# Altium footprint library 农联网.PcbLib: 38 footprints (part 2 of 3)
Each footprint in its own frame and in the unit in brackets; x right, y up, seen from the top. Pads: shape width x height; smd on the part's side, far side on the other; paste and mask are expansions set on the pad; w line width, h text height; cw(c..) or ccw(c..) is an arc to the next point about the centre after c.
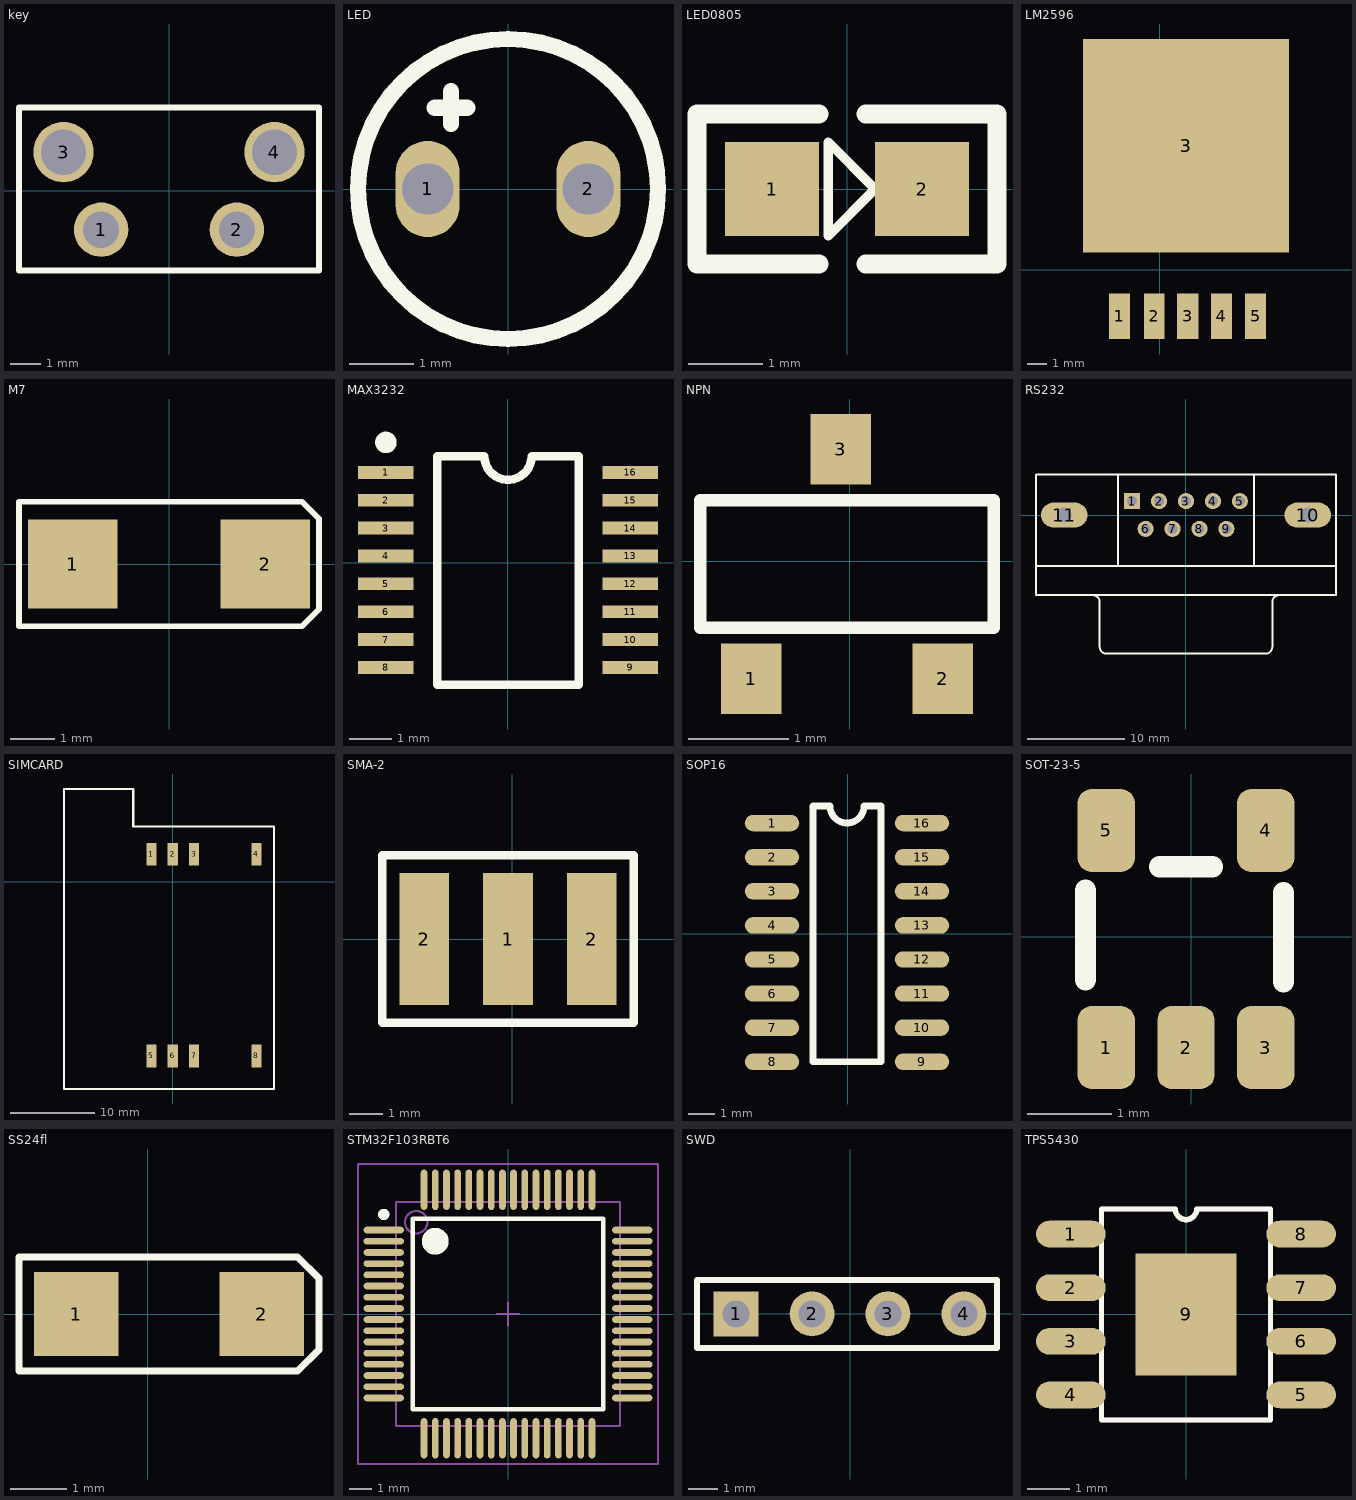
[diagram p1: the footprints below, top view; thin cyan lines are the x and y axes]

## key [mm]
pads (4):
  round 1.8 hole 1.2: 1(-2.248,-1.283) 2(2.248,-1.283)
  round 2 hole 1.5: 3(-3.492,1.283) 4(3.492,1.283)
Top Overlay:
  lines w0.2: -4.966,-2.629 -4.966,2.756 4.966,2.756 4.966,-2.629 -4.966,-2.629

## LED [mm]
pads (2):
  oval 1x1.5 hole 0.8: 1(-1.254,0) 2(1.254,0)
Top Overlay:
  circle w0.254: c0,0 r2.342
  lines w0.254: -1.143,1.27 -0.635,1.27 ; -0.889,1.016 -0.889,1.524

## LED0805 [mil]
pads (2):
  rect 50x50 smd: 1(-40,0) 2(40,0)
Top Overlay:
  lines w5: -10,-25 15,0 -10,25 -10,-25
  lines w10: -15,-40 -80,-40 -80,40 -15,40 ; 10,-40 80,-40 80,40 10,40

## LM2596 [mm]
pads (6):
  rect 1.07x2.3 smd: 1(-2.046,-2.338) 3(1.408,-2.338) 4(3.11,-2.338) 5(4.837,-2.338)
  rect 1.04x2.3 smd: 2(-0.293,-2.338)
  rect 10.42x10.8 smd: 3(1.321,6.274)

## M7 [mm]
pads (2):
  rect 2x2 smd: 1(-2.159,0) 2(2.159,0)
Top Overlay:
  lines w0.127: -3.365,-1.397 2.984,-1.397 3.365,-1.016 3.365,1.016 2.984,1.397 -3.365,1.397 -3.365,-1.397

## MAX3232 [mm]
pads (16):
  rect 1.3x0.3 smd: 1(-2.845,2.108) 2(-2.845,1.458) 3(-2.845,0.808) 4(-2.845,0.158) 5(-2.845,-0.492) 6(-2.845,-1.142) 7(-2.845,-1.792) 8(-2.845,-2.442) 9(2.855,-2.442) 10(2.855,-1.792) 11(2.855,-1.142) 12(2.855,-0.492) 13(2.855,0.158) 14(2.855,0.808) 15(2.855,1.458) 16(2.855,2.108)
Top Overlay:
  circle w0.25: c-2.845,2.808 r0.125
  lines w0.2: -1.645,-2.845 1.655,-2.845 1.655,2.483 0.555,2.483 cw(c0.005,2.483) -0.545,2.483 -1.645,2.483 -1.645,-2.845
3D body: height 1.27, standoff 0, extent -1.773,-2.946 1.783,2.612

## NPN [mm]
pads (3):
  rect 0.6x0.7 smd: 1(-0.978,-1.168) 2(0.927,-1.168) 3(-0.089,1.118)
Top Overlay:
  lines w0.127: 1.414,-0.66 -1.486,-0.66 -1.486,0.61 1.414,0.61 ; 1.435,-0.66 1.435,0.61

## RS232 [mil]
pads (11):
  rrect0% 65x65 hole 40: 1(-218.11,55.91)
  round 65 hole 40: 2(-109.05,55.91) 3(0,55.91) 4(109.06,55.91) 5(218.11,55.91) 6(-163.58,-55.91) 7(-54.53,-55.91) 8(54.53,-55.91) 9(163.58,-55.91)
  oval 187.4x100 hole 60: 10(491.93,0) 11(-491.93,0)
Top Overlay:
  lines w7.87: -606.3,-205.91 606.3,-205.91 ; -376.38,-324.21 cw(c-376.38,-351.57) -349.02,-351.57 -348.82,-532.87 ccw(c-321.46,-532.87) -321.46,-560.24 321.46,-560.24 ccw(c321.46,-532.87) 348.82,-532.87 349.02,-351.57 cw(c376.38,-351.57) 376.38,-324.21 ; -275.59,-205.91 -275.59,164.17 ; 275.59,-205.91 275.59,164.17 ; -606.3,-324.02 -606.3,164.17 606.3,164.17 606.3,-324.02 -606.3,-324.02

## SIMCARD [mm]
pads (8):
  rect 1.2x2.7 smd: 1(-2.54,3.302) 2(0,3.302) 3(2.54,3.302) 4(9.944,3.302) 5(-2.54,-20.701) 6(0,-20.701) 7(2.54,-20.701) 8(9.944,-20.701)
Top Overlay:
  lines w0.254: -12.954,-24.638 12.065,-24.638 12.065,6.604 -4.699,6.604 -4.699,11.049 -12.954,11.049 -12.954,6.604 -12.954,-24.638

## SMA-2 [mm]
pads (3):
  rect 1.5x4 smd: 1(-0.127,0)
  rect 1.5x4 all layers, no hole: 2(-2.667,0) 2(2.413,0)
Top Overlay:
  lines w0.254: -3.937,-2.54 -3.937,-2.286 -3.937,2.54 3.683,2.54 3.683,-2.54 -3.937,-2.54

## SOP16 [mil]
pads (16):
  oval 80x24 smd: 1(-111,162) 2(-111,112) 3(-111,62) 4(-111,12) 5(-111,-38) 6(-111,-88) 7(-111,-138) 8(-111,-188) 9(109,-188) 10(109,-138) 11(109,-88) 12(109,-38) 13(109,12) 14(109,62) 15(109,112) 16(109,162)
Top Overlay:
  lines w10: -51,-188 -51,187 -26,187 ccw(c-1,187) 24,187 49,187 49,-188 -51,-188

## SOT-23-5 [mil]
pads (5):
  rrect50% 27x39 smd paste+1.5 mask+1.5: 1(-40,-52) 2(-2.5,-52) 3(35,-52) 4(35,50) 5(-40,50)
Top Overlay:
  lines w10: -49.7,-20.1 -49.7,21.9 ; -15,33 10,33 ; 43.3,-21.1 43.3,20.9
3D body: height 5, standoff 0, extent 23,25.99 40.04,52.03
3D body: height 5, standoff 0, extent 23,-50.04 40.04,-24
3D body: height 5, standoff 0, extent -42,25.99 -24.96,52.03
3D body: height 10, standoff 0, extent -43.98,-23.98 39.98,25.98
3D body: height 5, standoff 0, extent -12.52,-50.04 4.52,-24
3D body: height 5, standoff 0, extent -41.52,-49.04 -24.48,-23

## SS24fl [mm]
pads (2):
  rect 1.5x1.5 smd: 1(-1.27,0) 2(2.032,0)
Top Overlay:
  lines w0.127: -2.286,-1.016 -2.286,1.016 2.667,1.016 3.048,0.635 3.048,-0.635 2.667,-1.016 -2.286,-1.016

## STM32F103RBT6 [mm]
pads (64):
  oval 1.8x0.3 smd: 1(-5.55,3.75) 2(-5.55,3.25) 3(-5.55,2.75) 4(-5.55,2.25) 5(-5.55,1.75) 6(-5.55,1.25) 7(-5.55,0.75) 8(-5.55,0.25) 9(-5.55,-0.25) 10(-5.55,-0.75) 11(-5.55,-1.25) 12(-5.55,-1.75) 13(-5.55,-2.25) 14(-5.55,-2.75) 15(-5.55,-3.25) 16(-5.55,-3.75) 33(5.55,-3.75) 34(5.55,-3.25) 35(5.55,-2.75) 36(5.55,-2.25) 37(5.55,-1.75) 38(5.55,-1.25) 39(5.55,-0.75) 40(5.55,-0.25) 41(5.55,0.25) 42(5.55,0.75) 43(5.55,1.25) 44(5.55,1.75) 45(5.55,2.25) 46(5.55,2.75) 47(5.55,3.25) 48(5.55,3.75)
  oval 0.3x1.8 smd: 17(-3.75,-5.55) 18(-3.25,-5.55) 19(-2.75,-5.55) 20(-2.25,-5.55) 21(-1.75,-5.55) 22(-1.25,-5.55) 23(-0.75,-5.55) 24(-0.25,-5.55) 25(0.25,-5.55) 26(0.75,-5.55) 27(1.25,-5.55) 28(1.75,-5.55) 29(2.25,-5.55) 30(2.75,-5.55) 31(3.25,-5.55) 32(3.75,-5.55) 49(3.75,5.55) 50(3.25,5.55) 51(2.75,5.55) 52(2.25,5.55) 53(1.75,5.55) 54(1.25,5.55) 55(0.75,5.55) 56(0.25,5.55) 57(-0.25,5.55) 58(-0.75,5.55) 59(-1.25,5.55) 60(-1.75,5.55) 61(-2.25,5.55) 62(-2.75,5.55) 63(-3.25,5.55) 64(-3.75,5.55)
Top Overlay:
  circle w0.6: c-3.25,3.25 r0.3
  circle w0.25: c-5.55,4.45 r0.125
  lines w0.2: -4.25,-4.25 4.25,-4.25 4.25,4.25 -4.25,4.25 -4.25,-4.25
Mechanical 13:
  circle w0.1: c-4.1,4.1 r0.5
  lines w0.1: -5,-5 5,-5 5,5 -5,5 -5,-5
Mechanical 15:
  lines w0.1: -0.5,0 0.5,0 ; 0,-0.5 0,0.5 ; -6.7,-6.7 6.7,-6.7 6.7,6.7 -6.7,6.7 -6.7,-6.7
3D body: height 1.6, standoff 0, extent -5,-5 5,5

## SWD [mm]
pads (4):
  rect 1.5x1.5 hole 0.9: 1(-3.81,0)
  round 1.5 hole 0.9: 2(-1.27,0) 3(1.27,0) 4(3.81,0)
Top Overlay:
  lines w0.2: -5.117,-1.148 4.916,-1.148 4.916,1.138 -5.117,1.138 -5.117,-1.148

## TPS5430 [mil]
pads (9):
  oval 65x25 smd: 1(-107.36,75) 2(-107.36,25) 3(-107.36,-25) 4(-107.36,-75) 5(107.36,-75) 6(107.36,-25) 7(107.36,25) 8(107.36,75)
  rect 94.49x114.17 smd: 9(0,0)
Top Overlay:
  lines w5: -78.74,-98.43 -78.74,98.43 -10,98.43 ccw(c0,98.43) 10,98.43 78.74,98.43 78.74,-98.43 -78.74,-98.43
Mechanical 1:
  lines w5: -78.74,-98.43 -78.74,98.43 -10,98.43 ccw(c0,98.43) 10,98.43 78.74,98.43 78.74,-98.43 -78.74,-98.43